# Altium integrated library temperature_logger_lib.IntLib: 16 symbols
Pins are listed as number, name and electrical type; pins without a type are passive.

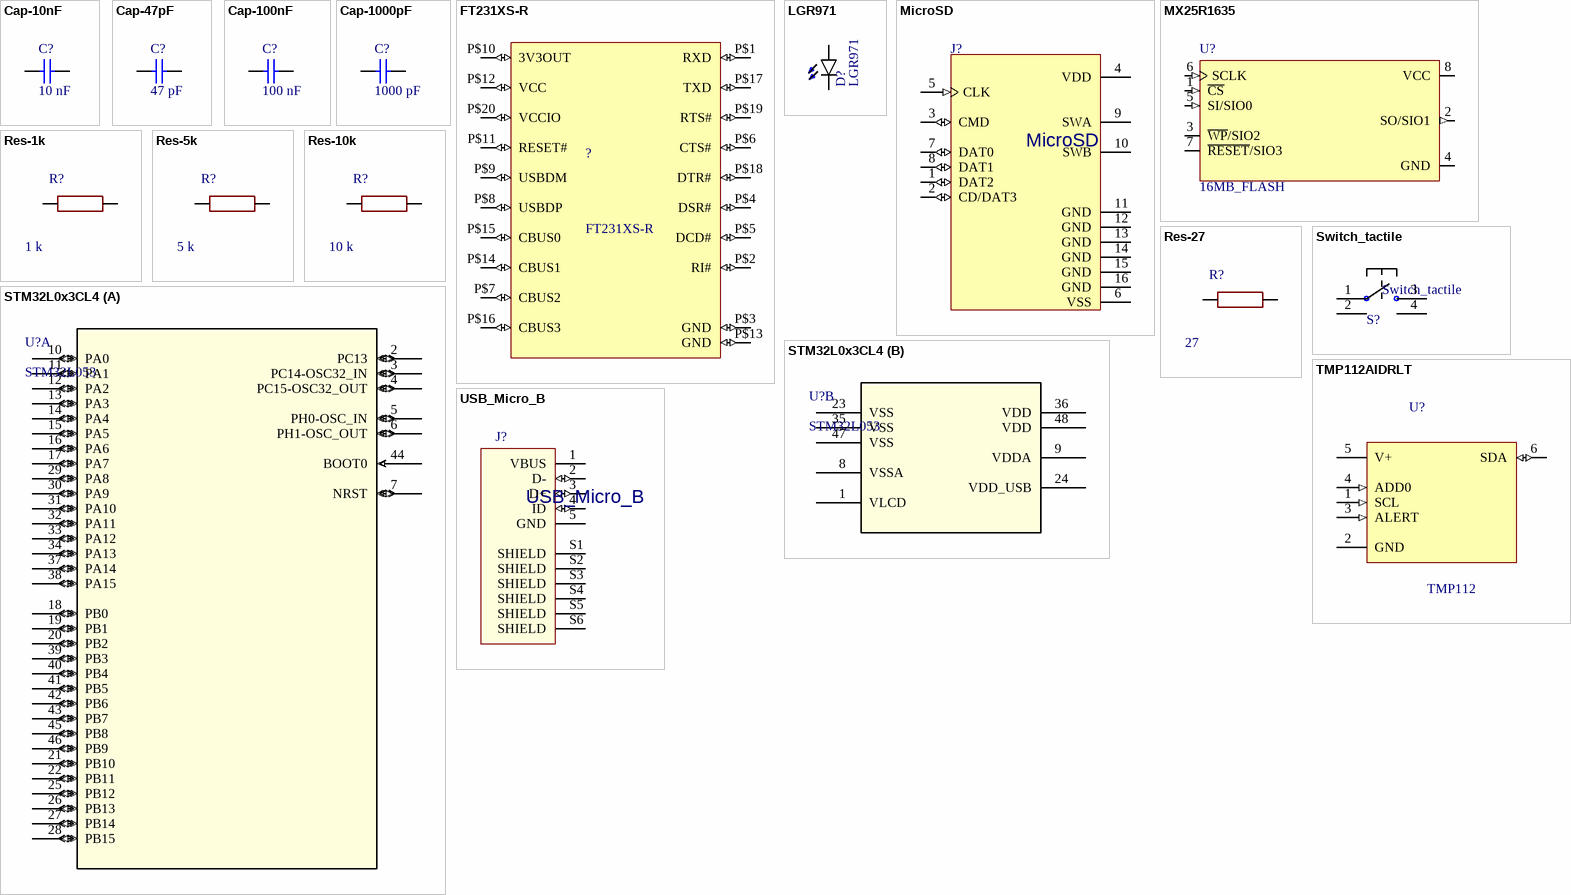
[diagram p0: symbols Cap-10nF to USB_Micro_B]

## Cap-10nF
designator C?, comment 10 nF
CAP CER 10000PF 10V X7R 0805; Manufacturer: Wurth Electronics Inc.; Manufacturer Part Number: 885012207011; Digikey_link: https://www.digikey.com.au/product-detail/en/wurth-electronics-inc/885012207011/732-8021-1-ND/5454648; Package: C0805; Price: 0.15 AUD; Value: 10 nF
footprint C0805 (Chip Capacitor; Body 2.0 x 1.2 mm (LxW typ))
pins: 1, 2

## Cap-47pF
designator C?, comment 47 pF
CAP CER 47PF 1KV C0G/NP0 0805; Manufacturer: KEMET; Manufacturer Part Number: C0805C470JDGACTU; Digikey_link: https://www.digikey.com.au/product-detail/en/kemet/C0805C470JDGACTU/399-7157-1-ND/3439404; Package: C0805; Price: 0.62 AUD; Value: 47 pF
footprint C0805 (Chip Capacitor; Body 2.0 x 1.2 mm (LxW typ))
pins: 1, 2

## Cap-100nF
designator C?, comment 100 nF
CAP CER 0.1UF 50V X7R 0805; Manufacturer: KEMET; Manufacturer Part Number: C0805X104K5RACTU; Digikey_link: https://www.digikey.com.au/product-detail/en/kemet/C0805X104K5RACTU/399-5330-1-ND/1842309; Package: C0805; Price: 0.46 AUD; Value: 100 nF
footprint C0805 (Chip Capacitor; Body 2.0 x 1.2 mm (LxW typ))
pins: 1, 2

## Cap-1000pF
designator C?, comment 1000 pF
CAP CER 1000PF 100V X7R 0805; Manufacturer: KEMET; Manufacturer Part Number: C0805C102K1RACTU; Digikey_link: https://www.digikey.com.au/product-detail/en/kemet/C0805C102K1RACTU/399-1148-2-ND/411147; Package: C0805; Price: 0.035 USD; Value: 1000 pF
footprint C0805 (Chip Capacitor; Body 2.0 x 1.2 mm (LxW typ))
pins: 1, 2

## FT231XS-R
designator ?
USB Full Speed to Full Handshake UART with USB Charger Detection; MF: FTDI,; MP: FT231XS-R; Availability: Good; SnapEDA_Link: https://www.snapeda.com/parts/FT231XS-R/FTDI%2C%20Future%20Technology%20Devices%20International%20Ltd/view-part/?ref=snap; Package: SSOP-20 FTDI; Price: 1.80 USD; Value: *
footprint SSOP20
pins: P$1 RXD (io), P$2 RI# (io), P$3 GND (io), P$4 DSR# (io), P$5 DCD# (io), P$6 CTS# (io), P$7 CBUS2 (io), P$8 USBDP (io), P$9 USBDM (io), P$10 3V3OUT (io), P$11 RESET# (io), P$12 VCC (io), P$13 GND (io), P$14 CBUS1 (io), P$15 CBUS0 (io), P$16 CBUS3 (io), P$17 TXD (io), P$18 DTR# (io), P$19 RTS# (io), P$20 VCCIO (io)

## LGR971
designator D?
LED GREEN DIFFUSED 0805 SMD; Manufacturer: Osram Opto; Manufacturer Part Number: LG R971-KN-1; Value: Green LED; Digikey_link: https://www.digikey.com.au/product-detail/en/osram-opto-semiconductors-inc/LG-R971-KN-1/475-1410-2-ND/1227925; Price: 0.09 USD; Package: LED0805
footprint D0805
pins: A, C

## MicroSD
designator J?
MICRO SD PUSH PUSH LOW PROFILE TYPE; Manufacturer Part Number: 2201778-1; Manufacturer: TE Connectivity; Product_Type: Removable Memory Products; Price: 3.61 USD; Digikey_link: https://www.digikey.com.au/product-detail/en/te-connectivity-amp-connectors/2201778-1/A118117CT-ND/4729820; Package: MicroSD; Value: MicroSD
footprint MicroSD
pins: 1 DAT2 (io), 2 CD/DAT3 (io), 3 CMD (io), 4 VDD (power), 5 CLK (in), 6 VSS (power), 7 DAT0 (io), 8 DAT1 (io), 9 SWA, 10 SWB, 11 GND (power), 12 GND (power), 13 GND (power), 14 GND (power), 15 GND (power), 16 GND (power)

## MX25R1635
designator U?, comment 16MB_FLASH
IC FLASH 16M SPI 80MHZ 8SOP; Manufacturer Part Number: MX25R1635FM2IL0; Manufacturer: Macronix; Value: MX25R1635FM2IH1; Package: SOP-8; Digikey_link: https://www.digikey.com/product-detail/en/macronix/MX25R1635FM2IH1/1092-1176-ND/5957737; Price: 0.97 USD
footprint 8-SOIC
pins: 1 ~{CS} (in), 2 SO/SIO1 (out), 3 ~{WP}/SIO2 (io), 4 GND (power), 5 SI/SIO0 (in), 6 SCLK (in), 7 ~{RESET}/SIO3 (io), 8 VCC (power)

## Res-1k
designator R?, comment 1 k
RES 1K OHM 0.1% 1/5W 0805; Manufacturer: Vishay Dale; Manufacturer Part Number: TNPW08051K00BEEA; Package: R0805; Price: 0.03 USD; Digikey_link: https://www.digikey.com.au/product-detail/en/vishay-dale/TNPW08051K00BEEA/TNP1.00KABTR-ND/1607282; Value: 1k
footprint R0805
pins: 1, 2

## Res-5k
designator R?, comment 5 k
RES SMD 4.7K OHM 0.1% 1/8W 0805; Manufacturer: Panasonic Electronic Components; Manufacturer Part Number: ERA-6AEB472V; Value: 5k; Package: R0805; Price: 0.51 AUD; Digikey_link: https://www.digikey.com.au/product-detail/en/panasonic-electronic-components/ERA-6AEB472V/P4.7KDACT-ND/1465963
footprint R0805
pins: 1, 2

## Res-10k
designator R?, comment 10 k
RES SMD 10K OHM 0.1% 1/8W 0805; Manufacturer: Panasonic Electronic Components; Manufacturer Part Number: ERA-6AEB103V; Package: R0805; Price: 0.36 AUD; Digikey_link: https://www.digikey.com/product-detail/en/panasonic-electronic-components/ERA-6AEB103V/P10KDACT-ND/1465971; Value: 10k
footprint R0805
pins: 1, 2

## Res-27
designator R?, comment 27
RES SMD 27 OHM 5% 1/8W 0805; Manufacturer: Panasonic Electronic Components; Manufacturer Part Number: ERJ-6GEYJ270V; Package: R0805; Price: 0.11 AUD; Digikey_link: https://www.digikey.com.au/product-detail/en/panasonic-electronic-components/ERJ-6GEYJ270V/P27ACT-ND/42810; Value: 27
footprint R0805
pins: 1, 2

## STM32L0x3CL4
designator U?, comment STM32L053
IC MCU 32BIT 64KB FLASH 48LQFP; Manufacturer Part Number: STM32L053C8T6; Manufacturer: STMicroelectronics; Value: STM32L053C8T6; Package: 48LQFP; Price: 5.66 AUD; Digikey_link: https://www.digikey.com.au/product-detail/en/stmicroelectronics/STM32L053C8T6/497-14906-ND/4935255
footprint LQFP48-7x7mm
part A pins: 2 PC13 (io), 3 PC14-OSC32_IN (io), 4 PC15-OSC32_OUT (io), 5 PH0-OSC_IN (io), 6 PH1-OSC_OUT (io), 7 NRST (io), 10 PA0 (io), 11 PA1 (io), 12 PA2 (io), 13 PA3 (io), 14 PA4 (io), 15 PA5 (io), 16 PA6 (io), 17 PA7 (io), 18 PB0 (io), 19 PB1 (io), 20 PB2 (io), 21 PB10 (io), 22 PB11 (io), 25 PB12 (io), 26 PB13 (io), 27 PB14 (io), 28 PB15 (io), 29 PA8 (io), 30 PA9 (io), 31 PA10 (io), 32 PA11 (io), 33 PA12 (io), 34 PA13 (io), 37 PA14 (io), 38 PA15 (io), 39 PB3 (io), 40 PB4 (io), 41 PB5 (io), 42 PB6 (io), 43 PB7 (io), 44 BOOT0 (in), 45 PB8 (io), 46 PB9 (io)
part B pins: 1 VLCD (power), 8 VSSA (power), 9 VDDA (power), 23 VSS (power), 24 VDD_USB (power), 35 VSS (power), 36 VDD (power), 47 VSS (power), 48 VDD (power)

## Switch_tactile
designator S?
SWITCH TACTILE SPST-NO 0.05A 12V; Manufacturer: C&K Components; Manufacturer Part Number: PTS645SM43SMTR; Package: 6x6; Price: 0.22 USD; Digikey_link: https://www.digikey.com.au/product-detail/en/c-k/PTS645SM43SMTR92-LFS/CKN9112CT-ND/1146934; Value: Switch_Tactile
footprint Tactile1 (6 mm x 6 mm)
pins: 1 P$1, 2 P$1, 3 P$2, 4 P$2

## TMP112AIDRLT
designator U?, comment TMP112
1.4V-Capable ?0.5?C Temperature Sensor with Alert Function and I2C/SMBus interface in SOT-563 6-SOT -40 to 125; Manufacturer Part Number: TMP112AIDRLT; Manufacturer: Texas Instruments; Value: TMP112AIDRLT; Digikey_link: https://www.digikey.com/product-detail/en/texas-instruments/TMP112AIDRLR/296-38578-2-ND/2232593; Package: SOT-563; Price: 1 USD
footprint SOT563
pins: 1 SCL (in), 2 GND, 3 ALERT (in), 4 ADD0 (in), 5 V+ (power), 6 SDA (io)

## USB_Micro_B
designator J?
USB - micro B USB 2.0 Receptacle Connector 5 Position Surface Mount, Right Angle; Through Hole; Manufacturer Part Number: 2040002-1; Manufacturer: TE Connectivity; Value: USB Micro B; Package: USB-Micro-B; Price: 3.03 USD; Product_Type: Connector; Digikey_link: https://www.digikey.com.au/product-detail/en/te-connectivity-amp-connectors/2040002-1/A108263CT-ND/4021990
footprint MicroUSB
pins: 1 VBUS (power), 2 D- (io), 3 D+ (io), 4 ID (io), 5 GND (power), S1 SHIELD (power), S2 SHIELD (power), S3 SHIELD (power), S4 SHIELD (power), S5 SHIELD (power), S6 SHIELD (power)